# Altium schematic symbol library Relays.SchLib: 1 symbol
Pins are listed as number, name and electrical type; pins without a type are passive.

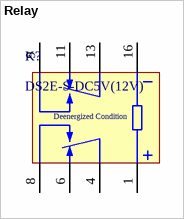
[diagram p0: symbol Relay]

## Relay
designator K?, comment DS2E-S-DC5V(12V)
DS2E-S-DC5V Single side stable
footprint DS2E-S-DC5V
pins: 1, 4, 6, 8, 9, 11, 13, 16
text: Deenergized Condition